# Altium footprint library ZX62M-B-5P_01_.PcbLib: 1 footprints
Each footprint in its own frame and in the unit in brackets; x right, y up, seen from the top. Pads: shape width x height; smd on the part's side, far side on the other; paste and mask are expansions set on the pad; w line width, h text height; cw(c..) or ccw(c..) is an arc to the next point about the centre after c.
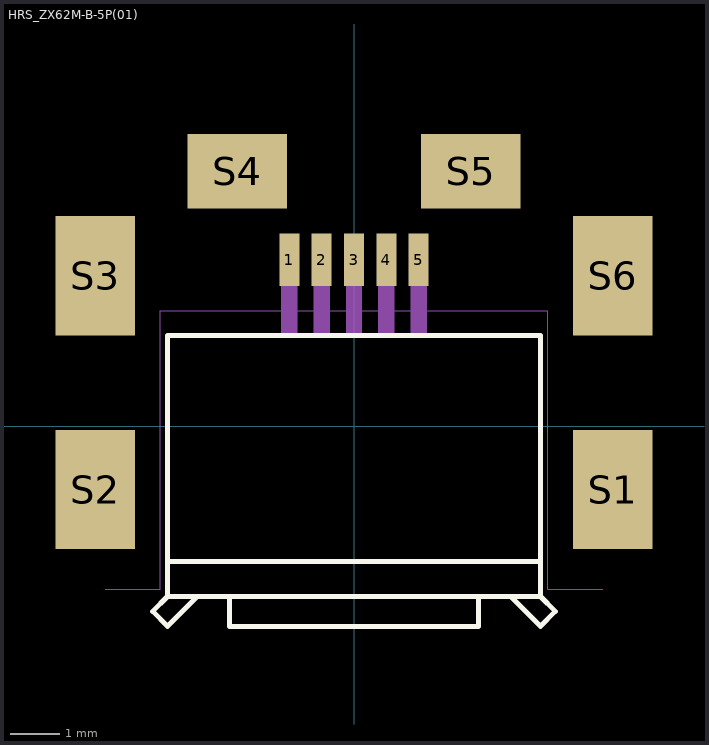
[diagram p0: the footprint, top view; thin cyan lines are the x and y axes]

## HRS_ZX62M-B-5P(01) [mm]
pads (11):
  rect 0.4x1.05 smd: 1(-1.3,3.355) 2(-0.65,3.355) 3(0,3.355) 4(0.65,3.355) 5(1.3,3.355)
  rect 1.6x2.4 smd: S1(5.2,-1.27) S2(-5.2,-1.27) S3(-5.2,3.03) S6(5.2,3.03)
  rect 2x1.5 smd: S4(-2.35,5.13) S5(2.35,5.13)
Top Overlay:
  lines w0.1: -3.75,-2.72 3.75,-2.72 ; -3.75,-3.42 -4.05,-3.72 -3.75,-4.02 -3.15,-3.42 ; -3.75,-3.42 -3.15,-3.42 ; -3.75,-3.42 -3.75,1.83 3.75,1.83 3.75,-3.42 ; -3.15,-3.42 -2.5,-3.42 ; -2.5,-3.42 -2.5,-4.02 2.5,-4.02 2.5,-3.42 ; -2.5,-3.42 2.5,-3.42 ; 2.5,-3.42 3.15,-3.42 ; 3.15,-3.42 3.75,-4.02 4.05,-3.72 3.75,-3.42 ; 3.15,-3.42 3.75,-3.42
Mechanical 1:
  region: 1.14,1.83 1.14,3.68 1.46,3.68 1.46,1.83
  region: 0.49,1.83 0.49,3.68 0.81,3.68 0.81,1.83
  region: -0.159,1.831 -0.159,3.683 0.157,3.683 0.157,1.831
  region: -0.81,1.83 -0.81,3.682 -0.492,3.682 -0.492,1.83
  region: -1.46,1.83 -1.46,3.682 -1.142,3.682 -1.142,1.83
  lines w0: -5,-3.27 -3.9,-3.27 -3.9,2.33 3.9,2.33 3.9,-3.27 5,-3.27